# Altium schematic symbol library SCH - MCU - ATSAM - MICROCHIP SAMD21G17L-MF QFN48.SchLib: 1 symbol
Pins are listed as number, name and electrical type; pins without a type are passive.

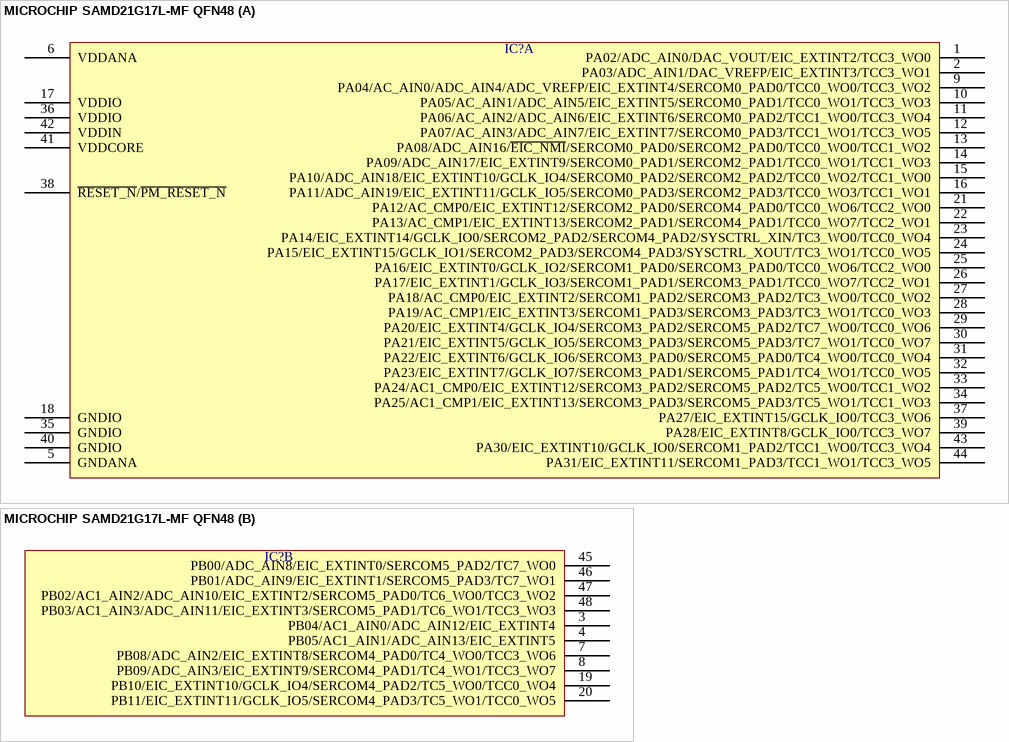
[diagram p0: symbol MICROCHIP SAMD21G17L-MF QFN48]

## MICROCHIP SAMD21G17L-MF QFN48
designator IC?  (value not drawn)
part A pins: 1 PA02/ADC_AIN0/DAC_VOUT/EIC_EXTINT2/TCC3_WO0, 2 PA03/ADC_AIN1/DAC_VREFP/EIC_EXTINT3/TCC3_WO1, 5 GNDANA, 6 VDDANA, 9 PA04/AC_AIN0/ADC_AIN4/ADC_VREFP/EIC_EXTINT4/SERCOM0_PAD0/TCC0_WO0/TCC3_WO2, 10 PA05/AC_AIN1/ADC_AIN5/EIC_EXTINT5/SERCOM0_PAD1/TCC0_WO1/TCC3_WO3, 11 PA06/AC_AIN2/ADC_AIN6/EIC_EXTINT6/SERCOM0_PAD2/TCC1_WO0/TCC3_WO4, 12 PA07/AC_AIN3/ADC_AIN7/EIC_EXTINT7/SERCOM0_PAD3/TCC1_WO1/TCC3_WO5, 13 PA08/ADC_AIN16/~{EIC_NMI}/SERCOM0_PAD0/SERCOM2_PAD0/TCC0_WO0/TCC1_WO2, 14 PA09/ADC_AIN17/EIC_EXTINT9/SERCOM0_PAD1/SERCOM2_PAD1/TCC0_WO1/TCC1_WO3, 15 PA10/ADC_AIN18/EIC_EXTINT10/GCLK_IO4/SERCOM0_PAD2/SERCOM2_PAD2/TCC0_WO2/TCC1_WO0, 16 PA11/ADC_AIN19/EIC_EXTINT11/GCLK_IO5/SERCOM0_PAD3/SERCOM2_PAD3/TCC0_WO3/TCC1_WO1, 17 VDDIO, 18 GNDIO, 21 PA12/AC_CMP0/EIC_EXTINT12/SERCOM2_PAD0/SERCOM4_PAD0/TCC0_WO6/TCC2_WO0, 22 PA13/AC_CMP1/EIC_EXTINT13/SERCOM2_PAD1/SERCOM4_PAD1/TCC0_WO7/TCC2_WO1, 23 PA14/EIC_EXTINT14/GCLK_IO0/SERCOM2_PAD2/SERCOM4_PAD2/SYSCTRL_XIN/TC3_WO0/TCC0_WO4, 24 PA15/EIC_EXTINT15/GCLK_IO1/SERCOM2_PAD3/SERCOM4_PAD3/SYSCTRL_XOUT/TC3_WO1/TCC0_WO5, 25 PA16/EIC_EXTINT0/GCLK_IO2/SERCOM1_PAD0/SERCOM3_PAD0/TCC0_WO6/TCC2_WO0, 26 PA17/EIC_EXTINT1/GCLK_IO3/SERCOM1_PAD1/SERCOM3_PAD1/TCC0_WO7/TCC2_WO1, 27 PA18/AC_CMP0/EIC_EXTINT2/SERCOM1_PAD2/SERCOM3_PAD2/TC3_WO0/TCC0_WO2, 28 PA19/AC_CMP1/EIC_EXTINT3/SERCOM1_PAD3/SERCOM3_PAD3/TC3_WO1/TCC0_WO3, 29 PA20/EIC_EXTINT4/GCLK_IO4/SERCOM3_PAD2/SERCOM5_PAD2/TC7_WO0/TCC0_WO6, 30 PA21/EIC_EXTINT5/GCLK_IO5/SERCOM3_PAD3/SERCOM5_PAD3/TC7_WO1/TCC0_WO7, 31 PA22/EIC_EXTINT6/GCLK_IO6/SERCOM3_PAD0/SERCOM5_PAD0/TC4_WO0/TCC0_WO4, 32 PA23/EIC_EXTINT7/GCLK_IO7/SERCOM3_PAD1/SERCOM5_PAD1/TC4_WO1/TCC0_WO5, 33 PA24/AC1_CMP0/EIC_EXTINT12/SERCOM3_PAD2/SERCOM5_PAD2/TC5_WO0/TCC1_WO2, 34 PA25/AC1_CMP1/EIC_EXTINT13/SERCOM3_PAD3/SERCOM5_PAD3/TC5_WO1/TCC1_WO3, 35 GNDIO, 36 VDDIO, 37 PA27/EIC_EXTINT15/GCLK_IO0/TCC3_WO6, 38 ~{RESET_N}/~{PM_RESET_N}, 39 PA28/EIC_EXTINT8/GCLK_IO0/TCC3_WO7, 40 GNDIO, 41 VDDCORE, 42 VDDIN, 43 PA30/EIC_EXTINT10/GCLK_IO0/SERCOM1_PAD2/TCC1_WO0/TCC3_WO4, 44 PA31/EIC_EXTINT11/SERCOM1_PAD3/TCC1_WO1/TCC3_WO5
part B pins: 3 PB04/AC1_AIN0/ADC_AIN12/EIC_EXTINT4, 4 PB05/AC1_AIN1/ADC_AIN13/EIC_EXTINT5, 7 PB08/ADC_AIN2/EIC_EXTINT8/SERCOM4_PAD0/TC4_WO0/TCC3_WO6, 8 PB09/ADC_AIN3/EIC_EXTINT9/SERCOM4_PAD1/TC4_WO1/TCC3_WO7, 19 PB10/EIC_EXTINT10/GCLK_IO4/SERCOM4_PAD2/TC5_WO0/TCC0_WO4, 20 PB11/EIC_EXTINT11/GCLK_IO5/SERCOM4_PAD3/TC5_WO1/TCC0_WO5, 45 PB00/ADC_AIN8/EIC_EXTINT0/SERCOM5_PAD2/TC7_WO0, 46 PB01/ADC_AIN9/EIC_EXTINT1/SERCOM5_PAD3/TC7_WO1, 47 PB02/AC1_AIN2/ADC_AIN10/EIC_EXTINT2/SERCOM5_PAD0/TC6_WO0/TCC3_WO2, 48 PB03/AC1_AIN3/ADC_AIN11/EIC_EXTINT3/SERCOM5_PAD1/TC6_WO1/TCC3_WO3